# Altium schematic symbol library DIODE FAST 600V 8A.SchLib: 1 symbol
Pins are listed as number, name and electrical type; pins without a type are passive.

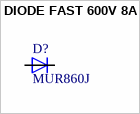
[diagram p0: symbol DIODE FAST 600V 8A]

## DIODE FAST 600V 8A
designator D?, comment MUR860J
Diode Standard 600 V 8A Surface Mount SMC; Supplier 1: Digi-Key; Supplier Part Number 1: 1740-MUR860JCT-ND; ComponentLink1Description: Octopart Link; ComponentLink1URL: https://octopart.com/search?q=MUR860J&currency=USD&specs=0
footprint DO-214AB-DIODES
pins: 1 C, 2 A